# Altium schematic symbol library Switches.SchLib: 6 symbols
Pins are listed as number, name and electrical type; pins without a type are passive.

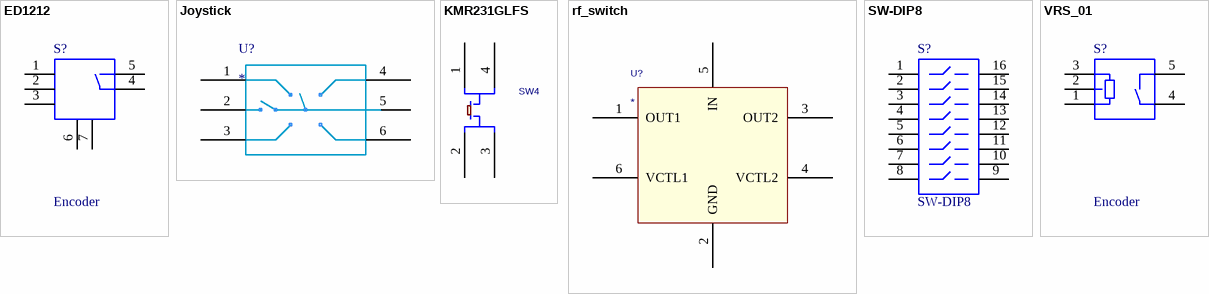
[diagram p0: symbols ED1212 to VRS_01]

## ED1212
designator S?, comment Encoder
DIP Switch
pins: 1, 2, 3, 4, 5, 6, 7, 8, 9, 10

## Joystick
designator U?
Low Profile 4-direction Joystick with Center-push Function
pins: 1, 2, 3, 4, 5, 6

## KMR231GLFS
designator SW4  (value not drawn)
pins: 1, 2, 3, 4

## rf_switch
designator U?
pins: 1 OUT1, 2 GND, 3 OUT2, 4 VCTL2, 5 IN, 6 VCTL1

## SW-DIP8
designator S?
DIP Switch
pins: 1, 2, 3, 4, 5, 6, 7, 8, 9, 10, 11, 12, 13, 14, 15, 16

## VRS_01
designator S?, comment Encoder
Vriable resistor and switch
pins: 1, 2, 3, 4, 5, 7, 8, 9, ?1